# EAGLE library part AT91RM9200 (library mylib)
Atmel's ARM920T-based Microcontroller
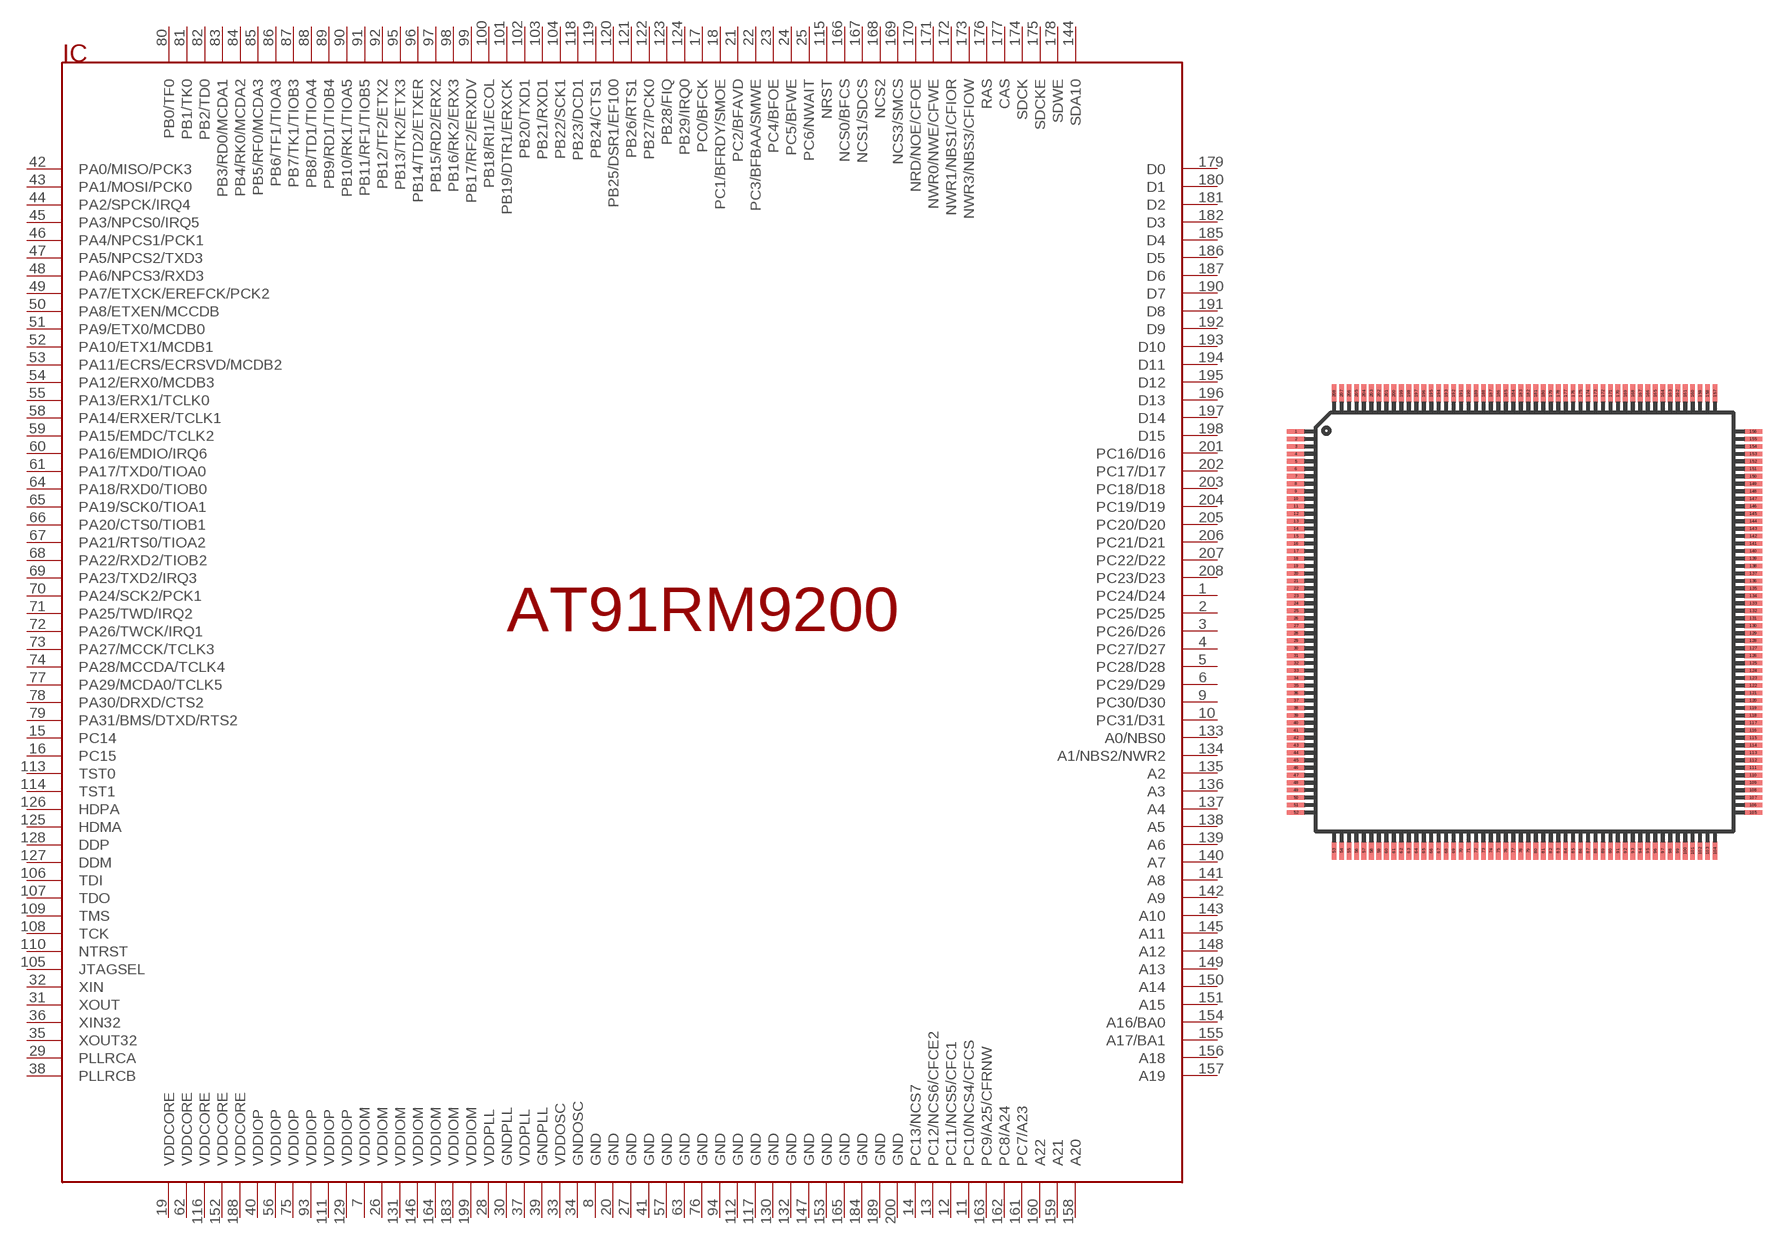
[diagram p0: symbol with the pads of PQFP208; footprint PQFP208]

Designator prefix IC

## AT91RM9200  [PQFP208]
1  PC24/D24
2  PC25/D25
3  PC26/D26
4  PC27/D27
5  PC28/D28
6  PC29/D29
7  VDDIOM  pwr
8  GND  pwr
9  PC30/D30
10  PC31/D31
11  PC10/NCS4/CFCS
12  PC11/NCS5/CFC1
13  PC12/NCS6/CFCE2
14  PC13/NCS7
15  PC14
16  PC15
17  PC0/BFCK
18  PC1/BFRDY/SMOE
19  VDDCORE  pwr
20  GND  pwr
21  PC2/BFAVD
22  PC3/BFBAA/SMWE
23  PC4/BFOE
24  PC5/BFWE
25  PC6/NWAIT
26  VDDIOM  pwr
27  GND  pwr
28  VDDPLL  pwr
29  PLLRCA
30  GNDPLL  pwr
31  XOUT
32  XIN
33  VDDOSC  pwr
34  GNDOSC  pwr
35  XOUT32
36  XIN32
37  VDDPLL  pwr
38  PLLRCB
39  GNDPLL  pwr
40  VDDIOP  pwr
41  GND  pwr
42  PA0/MISO/PCK3
43  PA1/MOSI/PCK0
44  PA2/SPCK/IRQ4
45  PA3/NPCS0/IRQ5
46  PA4/NPCS1/PCK1
47  PA5/NPCS2/TXD3
48  PA6/NPCS3/RXD3
49  PA7/ETXCK/EREFCK/PCK2
50  PA8/ETXEN/MCCDB
51  PA9/ETX0/MCDB0
52  PA10/ETX1/MCDB1
53  PA11/ECRS/ECRSVD/MCDB2
54  PA12/ERX0/MCDB3
55  PA13/ERX1/TCLK0
56  VDDIOP  pwr
57  GND  pwr
58  PA14/ERXER/TCLK1
59  PA15/EMDC/TCLK2
60  PA16/EMDIO/IRQ6
61  PA17/TXD0/TIOA0
62  VDDCORE  pwr
63  GND  pwr
64  PA18/RXD0/TIOB0
65  PA19/SCK0/TIOA1
66  PA20/CTS0/TIOB1
67  PA21/RTS0/TIOA2
68  PA22/RXD2/TIOB2
69  PA23/TXD2/IRQ3
70  PA24/SCK2/PCK1
71  PA25/TWD/IRQ2
72  PA26/TWCK/IRQ1
73  PA27/MCCK/TCLK3
74  PA28/MCCDA/TCLK4
75  VDDIOP  pwr
76  GND  pwr
77  PA29/MCDA0/TCLK5
78  PA30/DRXD/CTS2
79  PA31/BMS/DTXD/RTS2
80  PB0/TF0
81  PB1/TK0
82  PB2/TD0
83  PB3/RD0/MCDA1
84  PB4/RK0/MCDA2
85  PB5/RF0/MCDA3
86  PB6/TF1/TIOA3
87  PB7/TK1/TIOB3
88  PB8/TD1/TIOA4
89  PB9/RD1/TIOB4
90  PB10/RK1/TIOA5
91  PB11/RF1/TIOB5
92  PB12/TF2/ETX2
93  VDDIOP  pwr
94  GND  pwr
95  PB13/TK2/ETX3
96  PB14/TD2/ETXER
97  PB15/RD2/ERX2
98  PB16/RK2/ERX3
99  PB17/RF2/ERXDV
100  PB18/RI1/ECOL
101  PB19/DTR1/ERXCK
102  PB20/TXD1
103  PB21/RXD1
104  PB22/SCK1
105  JTAGSEL
106  TDI
107  TDO
108  TCK
109  TMS
110  NTRST
111  VDDIOP  pwr
112  GND  pwr
113  TST0
114  TST1
115  NRST
116  VDDCORE  pwr
117  GND  pwr
118  PB23/DCD1
119  PB24/CTS1
120  PB25/DSR1/EF100
121  PB26/RTS1
122  PB27/PCK0
123  PB28/FIQ
124  PB29/IRQ0
125  HDMA
126  HDPA
127  DDM
128  DDP
129  VDDIOP  pwr
130  GND  pwr
131  VDDIOM  pwr
132  GND  pwr
133  A0/NBS0
134  A1/NBS2/NWR2
135  A2
136  A3
137  A4
138  A5
139  A6
140  A7
141  A8
142  A9
143  A10
144  SDA10
145  A11
146  VDDIOM  pwr
147  GND  pwr
148  A12
149  A13
150  A14
151  A15
152  VDDCORE  pwr
153  GND  pwr
154  A16/BA0
155  A17/BA1
156  A18
157  A19
158  A20
159  A21
160  A22
161  PC7/A23
162  PC8/A24
163  PC9/A25/CFRNW
164  VDDIOM  pwr
165  GND  pwr
166  NCS0/BFCS
167  NCS1/SDCS
168  NCS2
169  NCS3/SMCS
170  NRD/NOE/CFOE
171  NWR0/NWE/CFWE
172  NWR1/NBS1/CFIOR
173  NWR3/NBS3/CFIOW
174  SDCK
175  SDCKE
176  RAS
177  CAS
178  SDWE
179  D0
180  D1
181  D2
182  D3
183  VDDIOM  pwr
184  GND  pwr
185  D4
186  D5
187  D6
188  VDDCORE  pwr
189  GND  pwr
190  D7
191  D8
192  D9
193  D10
194  D11
195  D12
196  D13
197  D14
198  D15
199  VDDIOM  pwr
200  GND  pwr
201  PC16/D16
202  PC17/D17
203  PC18/D18
204  PC19/D19
205  PC20/D20
206  PC21/D21
207  PC22/D22
208  PC23/D23

## Footprint PQFP208 (pad centres in mm)
PQFP208
smd 1.2 x 0.32: 1 -3.87,24.18; 2 -3.87,23.68; 3 -3.87,23.18; 4 -3.87,22.68; 5 -3.87,22.18; 6 -3.87,21.68; 7 -3.87,21.18; 8 -3.87,20.68; 9 -3.87,20.18; 10 -3.87,19.68; 11 -3.87,19.18; 12 -3.87,18.68; 13 -3.87,18.18; 14 -3.87,17.68; 15 -3.87,17.18; 16 -3.87,16.68; 17 -3.87,16.18; 18 -3.87,15.68; 19 -3.87,15.18; 20 -3.87,14.68; 21 -3.87,14.18; 22 -3.87,13.68; 23 -3.87,13.18; 24 -3.87,12.68; 25 -3.87,12.18; 26 -3.87,11.68; 27 -3.87,11.18; 28 -3.87,10.68; 29 -3.87,10.18; 30 -3.87,9.68; 31 -3.87,9.18; 32 -3.87,8.68; 33 -3.87,8.18; 34 -3.87,7.68; 35 -3.87,7.18; 36 -3.87,6.68; 37 -3.87,6.18; 38 -3.87,5.68; 39 -3.87,5.18; 40 -3.87,4.68; 41 -3.87,4.18; 42 -3.87,3.68; 43 -3.87,3.18; 44 -3.87,2.68; 45 -3.87,2.18; 46 -3.87,1.68; 47 -3.87,1.18; 48 -3.87,0.68; 49 -3.87,0.18; 50 -3.87,-0.32; 51 -3.87,-0.82; 52 -3.87,-1.32; 105 26.73,-1.32; 106 26.73,-0.82; 107 26.73,-0.32; 108 26.73,0.18; 109 26.73,0.68; 110 26.73,1.18; 111 26.73,1.68; 112 26.73,2.18; 113 26.73,2.68; 114 26.73,3.18; 115 26.73,3.68; 116 26.73,4.18; 117 26.73,4.68; 118 26.73,5.18; 119 26.73,5.68; 120 26.73,6.18; 121 26.73,6.68; 122 26.73,7.18; 123 26.73,7.68; 124 26.73,8.18; 125 26.73,8.68; 126 26.73,9.18; 127 26.73,9.68; 128 26.73,10.18; 129 26.73,10.68; 130 26.73,11.18; 131 26.73,11.68; 132 26.73,12.18; 133 26.73,12.68; 134 26.73,13.18; 135 26.73,13.68; 136 26.73,14.18; 137 26.73,14.68; 138 26.73,15.18; 139 26.73,15.68; 140 26.73,16.18; 141 26.73,16.68; 142 26.73,17.18; 143 26.73,17.68; 144 26.73,18.18; 145 26.73,18.68; 146 26.73,19.18; 147 26.73,19.68; 148 26.73,20.18; 149 26.73,20.68; 150 26.73,21.18; 151 26.73,21.68; 152 26.73,22.18; 153 26.73,22.68; 154 26.73,23.18; 155 26.73,23.68; 156 26.73,24.18
smd 0.32 x 1.2: 53 -1.32,-3.87; 54 -0.82,-3.87; 55 -0.32,-3.87; 56 0.18,-3.87; 57 0.68,-3.87; 58 1.18,-3.87; 59 1.68,-3.87; 60 2.18,-3.87; 61 2.68,-3.87; 62 3.18,-3.87; 63 3.68,-3.87; 64 4.18,-3.87; 65 4.68,-3.87; 66 5.18,-3.87; 67 5.68,-3.87; 68 6.18,-3.87; 69 6.68,-3.87; 70 7.18,-3.87; 71 7.68,-3.87; 72 8.18,-3.87; 73 8.68,-3.87; 74 9.18,-3.87; 75 9.68,-3.87; 76 10.18,-3.87; 77 10.68,-3.87; 78 11.18,-3.87; 79 11.68,-3.87; 80 12.18,-3.87; 81 12.68,-3.87; 82 13.18,-3.87; 83 13.68,-3.87; 84 14.18,-3.87; 85 14.68,-3.87; 86 15.18,-3.87; 87 15.68,-3.87; 88 16.18,-3.87; 89 16.68,-3.87; 90 17.18,-3.87; 91 17.68,-3.87; 92 18.18,-3.87; 93 18.68,-3.87; 94 19.18,-3.87; 95 19.68,-3.87; 96 20.18,-3.87; 97 20.68,-3.87; 98 21.18,-3.87; 99 21.68,-3.87; 100 22.18,-3.87; 101 22.68,-3.87; 102 23.18,-3.87; 103 23.68,-3.87; 104 24.18,-3.87; 157 24.18,26.73; 158 23.68,26.73; 159 23.18,26.73; 160 22.68,26.73; 161 22.18,26.73; 162 21.68,26.73; 163 21.18,26.73; 164 20.68,26.73; 165 20.18,26.73; 166 19.68,26.73; 167 19.18,26.73; 168 18.68,26.73; 169 18.18,26.73; 170 17.68,26.73; 171 17.18,26.73; 172 16.68,26.73; 173 16.18,26.73; 174 15.68,26.73; 175 15.18,26.73; 176 14.68,26.73; 177 14.18,26.73; 178 13.68,26.73; 179 13.18,26.73; 180 12.68,26.73; 181 12.18,26.73; 182 11.68,26.73; 183 11.18,26.73; 184 10.68,26.73; 185 10.18,26.73; 186 9.68,26.73; 187 9.18,26.73; 188 8.68,26.73; 189 8.18,26.73; 190 7.68,26.73; 191 7.18,26.73; 192 6.68,26.73; 193 6.18,26.73; 194 5.68,26.73; 195 5.18,26.73; 196 4.68,26.73; 197 4.18,26.73; 198 3.68,26.73; 199 3.18,26.73; 200 2.68,26.73; 201 2.18,26.73; 202 1.68,26.73; 203 1.18,26.73; 204 0.68,26.73; 205 0.18,26.73; 206 -0.32,26.73; 207 -0.82,26.73; 208 -1.32,26.73